# Altium schematic symbol library Regulator Linear 108x.SchLib: 11 symbols
Pins are listed as number, name and electrical type; pins without a type are passive.

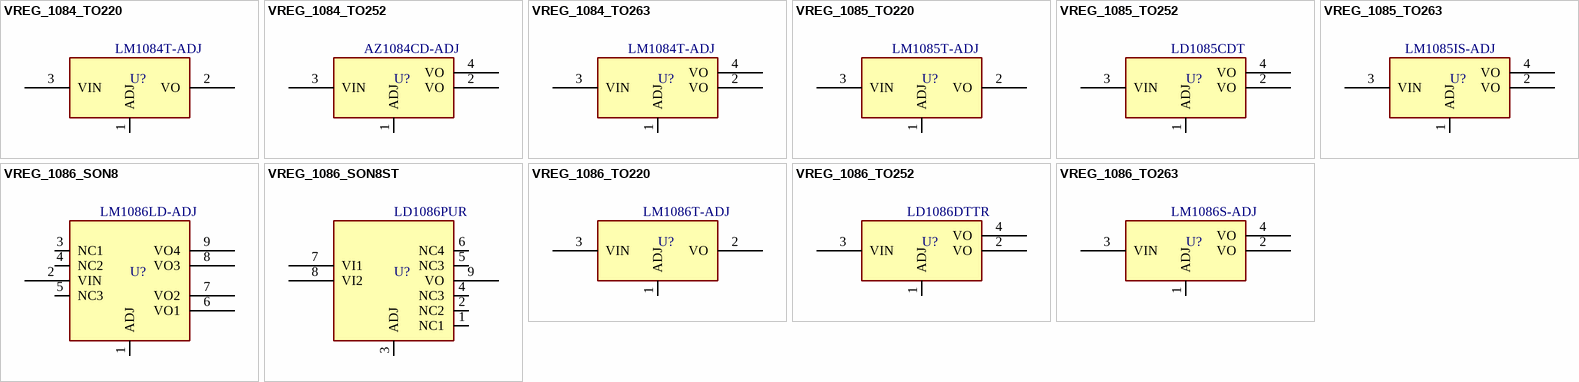
[diagram p0: symbols VREG_1084_TO220 to VREG_1086_TO263]

## VREG_1084_TO220
designator U?, comment LM1084T-ADJ
REG, Linear, LDO1.3, Adj, 5A, TO-220; MANF_P#: LM1084IT-ADJ, LD1084V, AZ1084T-ADJ; MANF: TI, ST, DIODES; PARAM2: 2.8~28VIN, 1.3VDROP, 1.25VREF; PARAM: 5A; VALUE: LM1084T-ADJ
footprint TO220_3 (TO-220 3 LEAD, TO-262, pitch: 2.54mm  10x4.5mm)
pins: 1 ADJ, 2 VO, 3 VIN

## VREG_1084_TO252
designator U?, comment AZ1084CD-ADJ
REG, Linear, LDO1.3, Adj, 1A, TO-252; MANF_P#: AZ1084CD-ADJ, KD1084ADT; MANF: DIODES; PARAM2: 2.8~28VIN, 1.3VDROP, 1.25VREF; PARAM: 1A; VALUE: AZ1084CD-ADJ
footprint DPAK_3 (D-PAK (TO-252), 3-Pads, Body 6.2x6.7mm)
pins: 1 ADJ, 2 VO, 3 VIN, 4 VO

## VREG_1084_TO263
designator U?, comment LM1084T-ADJ
REG, Linear, LDO1.3, Adj, 5A, TO-263; MANF_P#: LM1084IT-ADJ, LD1084V, AZ1084T-ADJ, KD1084AD2; MANF: TI, ST, DIODES; PARAM2: 2.8~28VIN, 1.3VDROP, 1.25VREF; PARAM: 5A; VALUE: LM1084T-ADJ
footprint D2PAK_3 (D2-PAK, 4-Pads, Body 7.6x8.6mm)
pins: 1 ADJ, 2 VO, 3 VIN, 4 VO

## VREG_1085_TO220
designator U?, comment LM1085T-ADJ
REG, Linear, LDO1.3, Adj, 3A, TO-220; MANF_P#: LD1085P, LM1085IT-ADJ, LD1085V; MANF: TI, ST; PARAM2: 2.8~28VIN, 1.3VDROP, 1.25VREF; PARAM: 3A; VALUE: LM1085T-ADJ
footprint TO220_3 (TO-220 3 LEAD, TO-262, pitch: 2.54mm  10x4.5mm)
pins: 1 ADJ, 2 VO, 3 VIN

## VREG_1085_TO252
designator U?, comment LD1085CDT
REG, Linear, LDO1.3, Adj, 1A, TO-252; MANF_P#: LD1085CDT, AZ1085CD-AD; MANF: ST, DIODES; PARAM2: 2.8~28VIN, 1.3VDROP, 1.25VREF; PARAM: 1A; VALUE: LD1085CDT
footprint DPAK_3 (D-PAK (TO-252), 3-Pads, Body 6.2x6.7mm)
pins: 1 ADJ, 2 VO, 3 VIN, 4 VO

## VREG_1085_TO263
designator U?, comment LM1085IS-ADJ
REG, Linear, LDO1.3, Adj, 3A, TO-263; MANF_P#: LM1085ISX-ADJ, LM1085IS-ADJ, AZ1085CS-ADJ,  LD1085D2T, LD1085D2M; MANF: TI, DIODES, ST; PARAM2: 2.8~28VIN, 1.3VDROP, 1.25VREF; PARAM: 3A; VALUE: LM1085IS-ADJ
footprint D2PAK_3 (D2-PAK, 4-Pads, Body 7.6x8.6mm)
pins: 1 ADJ, 2 VO, 3 VIN, 4 VO

## VREG_1086_SON8
designator U?, comment LM1086LD-ADJ
REG, Linear, LDO1.3, Adj, 1A, SON-8; MANF_P#: LM1086ILD-ADJ; MANF: TI; PARAM2: 2.8~30VIN, 1.3VDROP, 1.25VREF; PARAM: 1A; VALUE: LM1086LD-ADJ
footprint SON80_8T_4X4 (SON, DFN8, WSON-8, 8-Leads, Body 4x4mm, Pitch 0.80mm)
pins: 1 ADJ, 2 VIN, 3 NC1, 4 NC2, 5 NC3, 6 VO1, 7 VO2, 8 VO3, 9 VO4

## VREG_1086_SON8ST
designator U?, comment LD1086PUR
REG, Linear, LDO1.3, Adj, 1A, SON-8; MANF: ST; PARAM2: 2.8~30VIN, 1.3VDROP, 1.25VREF; MANF_P#: LD1086PUR; PARAM: 1A; VALUE: LD1086PUR
footprint SON80_8T_4X4 (SON, DFN8, WSON-8, 8-Leads, Body 4x4mm, Pitch 0.80mm)
pins: 1 NC1, 2 NC2, 3 ADJ, 4 NC3, 5 NC3, 6 NC4, 7 VI1, 8 VI2, 9 VO

## VREG_1086_TO220
designator U?, comment LM1086T-ADJ
REG, Linear, LDO1.3, Adj, 1.5A, TO-220; MANF_P#: LM1086IT-ADJ, LD1086VY, LD1086V-DG, LM1086CT-ADJ; MANF: TI, ST; PARAM2: 2.8~30VIN, 1.3VDROP, 1.25VREF; PARAM: 1.5A; VALUE: LM1086T-ADJ
footprint TO220_3 (TO-220 3 LEAD, TO-262, pitch: 2.54mm  10x4.5mm)
pins: 1 ADJ, 2 VO, 3 VIN

## VREG_1086_TO252
designator U?, comment LD1086DTTR
REG, Linear, LDO1.3, Adj, 1A, TO-252; MANF_P#: LD1086DTTR, LD1086D2MTR; MANF: ST; PARAM2: 2.8~30VIN, 1.3VDROP, 1.25VREF; PARAM: 1A; VALUE: LD1086DTTR
footprint DPAK_3 (D-PAK (TO-252), 3-Pads, Body 6.2x6.7mm)
pins: 1 ADJ, 2 VO, 3 VIN, 4 VO

## VREG_1086_TO263
designator U?, comment LM1086S-ADJ
REG, Linear, LDO1.3, Adj, 1.5A, TO-263; MANF_P#: LM1086CS-ADJ, LM1086IS-ADJ, AZ1086S-ADJ; MANF: TI, ST, DIODES; PARAM2: 2.8~30VIN, 1.3VDROP, 1.25VREF; PARAM: 1.5A; VALUE: LM1086S-ADJ
footprint D2PAK_3 (D2-PAK, 4-Pads, Body 7.6x8.6mm)
pins: 1 ADJ, 2 VO, 3 VIN, 4 VO